# Altium schematic symbol library conn_b2b.SchLib: 41 symbols (part 2 of 2)
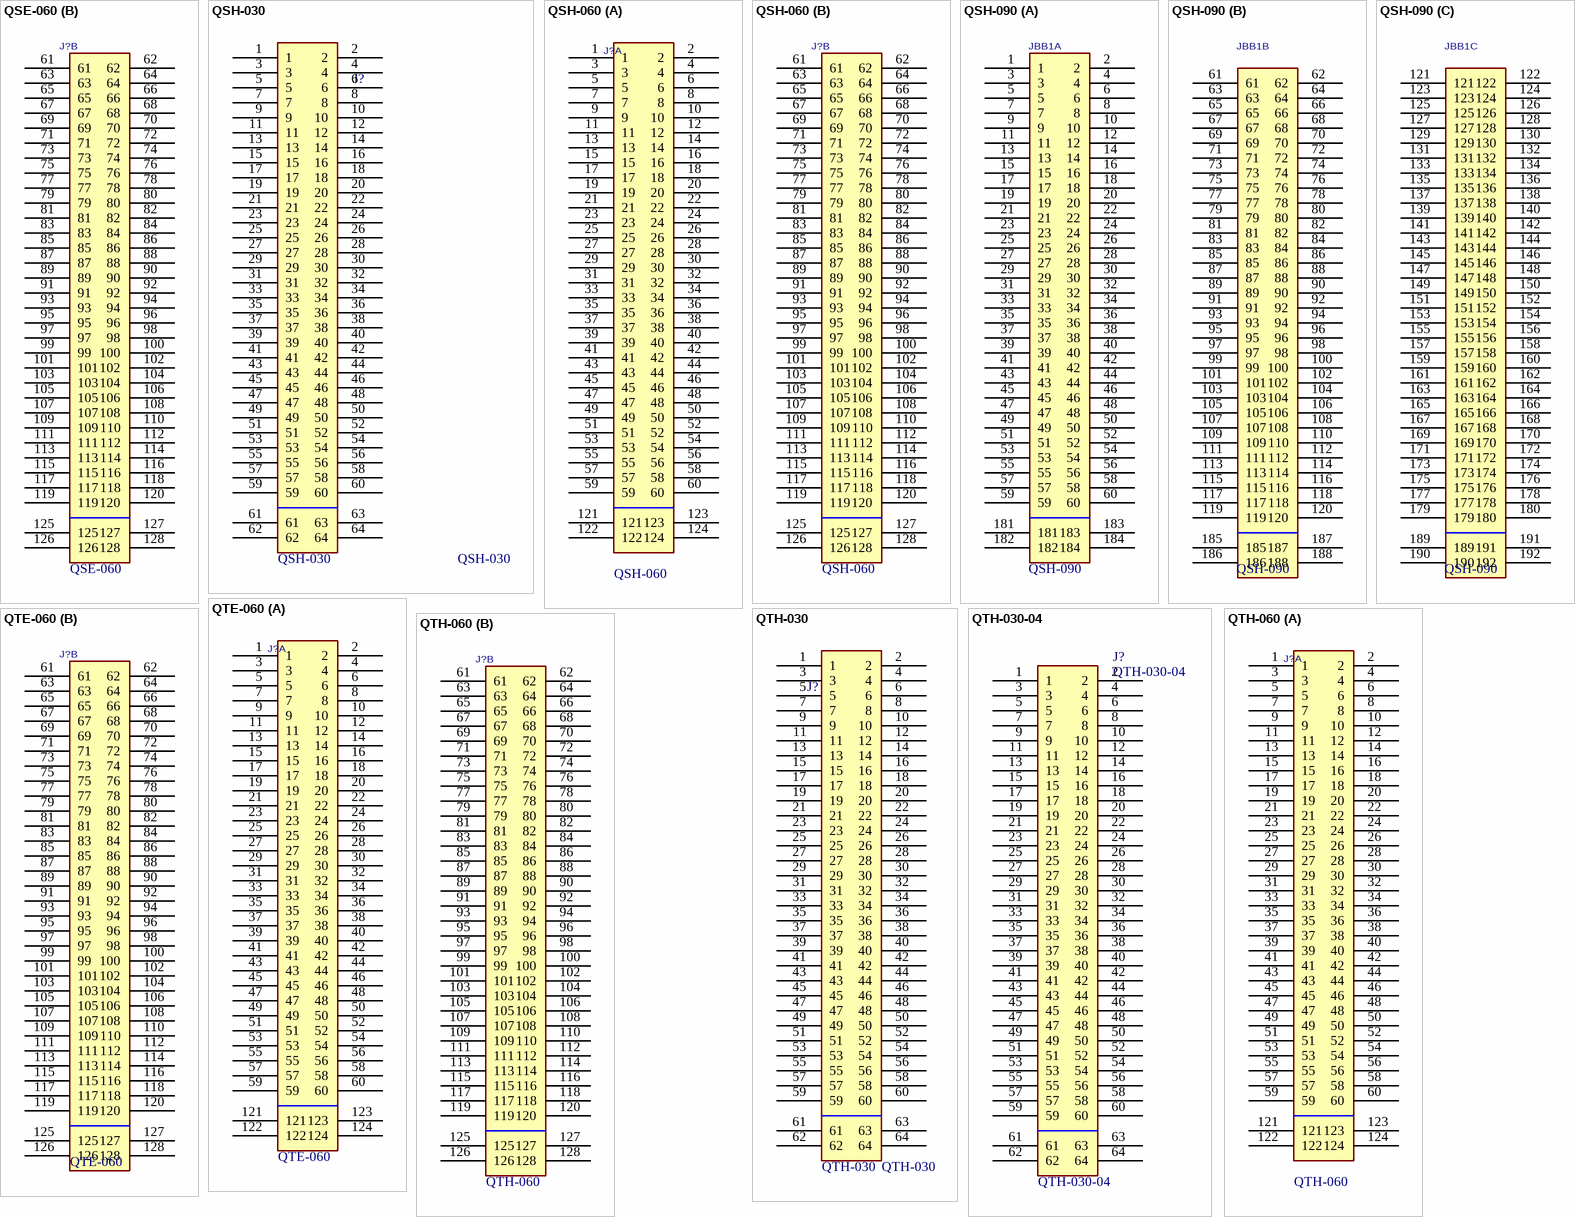
[diagram p13: symbols QSE-060 to QTH-060]

## QSH-060
designator J?
CONN, HI-SPD, Q-strip, 0.5mm pitch, Socket, 120P; MANF: SAMTEC; MANF_P#: QSH-060-01-X-D-A; VALUE: QSH-060
footprint QSH_060_01 (samtec 0.50mm Q Strip® High Speed Ground Plane Socket Strip, QSH-060-01-L-D-A)
part A pins: 1, 2, 3, 4, 5, 6, 7, 8, 9, 10, 11, 12, 13, 14, 15, 16, 17, 18, 19, 20, 21, 22, 23, 24, 25, 26, 27, 28, 29, 30, 31, 32, 33, 34, 35, 36, 37, 38, 39, 40, 41, 42, 43, 44, 45, 46, 47, 48, 49, 50, 51, 52, 53, 54, 55, 56, 57, 58, 59, 60, 121, 122, 123, 124
part B pins: 61, 62, 63, 64, 65, 66, 67, 68, 69, 70, 71, 72, 73, 74, 75, 76, 77, 78, 79, 80, 81, 82, 83, 84, 85, 86, 87, 88, 89, 90, 91, 92, 93, 94, 95, 96, 97, 98, 99, 100, 101, 102, 103, 104, 105, 106, 107, 108, 109, 110, 111, 112, 113, 114, 115, 116, 117, 118, 119, 120, 125, 126, 127, 128

## QSH-090
designator JBB1
CONN, HI-SPD, Q-strip, 0.5mm pitch, Socket, 180P; MANF: SAMTEC; MANF_P#: QSH-090-01-X-D-A; VALUE: QSH-090
footprint QSH_090_01 (Speed Ground Plane Socket Strip, QSH-060-01-L-D-A)
part A pins: 1, 2, 3, 4, 5, 6, 7, 8, 9, 10, 11, 12, 13, 14, 15, 16, 17, 18, 19, 20, 21, 22, 23, 24, 25, 26, 27, 28, 29, 30, 31, 32, 33, 34, 35, 36, 37, 38, 39, 40, 41, 42, 43, 44, 45, 46, 47, 48, 49, 50, 51, 52, 53, 54, 55, 56, 57, 58, 59, 60, 181, 182, 183, 184
part B pins: 61, 62, 63, 64, 65, 66, 67, 68, 69, 70, 71, 72, 73, 74, 75, 76, 77, 78, 79, 80, 81, 82, 83, 84, 85, 86, 87, 88, 89, 90, 91, 92, 93, 94, 95, 96, 97, 98, 99, 100, 101, 102, 103, 104, 105, 106, 107, 108, 109, 110, 111, 112, 113, 114, 115, 116, 117, 118, 119, 120, 185, 186, 187, 188
part C pins: 121, 122, 123, 124, 125, 126, 127, 128, 129, 130, 131, 132, 133, 134, 135, 136, 137, 138, 139, 140, 141, 142, 143, 144, 145, 146, 147, 148, 149, 150, 151, 152, 153, 154, 155, 156, 157, 158, 159, 160, 161, 162, 163, 164, 165, 166, 167, 168, 169, 170, 171, 172, 173, 174, 175, 176, 177, 178, 179, 180, 189, 190, 191, 192

## QTE-060
designator J?
CONN, HI-SPD, Q-strip, 0.8mm pitch, Terminal, 120P; MANF: SAMTEC; MANF_P#: QTE-060-03-X-D-A; VALUE: QTE-060
footprint QTE_060_03 (samtec 0.80 mm Q Strip® High Speed Ground Plane Terminal Strip)
part A pins: 1, 2, 3, 4, 5, 6, 7, 8, 9, 10, 11, 12, 13, 14, 15, 16, 17, 18, 19, 20, 21, 22, 23, 24, 25, 26, 27, 28, 29, 30, 31, 32, 33, 34, 35, 36, 37, 38, 39, 40, 41, 42, 43, 44, 45, 46, 47, 48, 49, 50, 51, 52, 53, 54, 55, 56, 57, 58, 59, 60, 121, 122, 123, 124
part B pins: 61, 62, 63, 64, 65, 66, 67, 68, 69, 70, 71, 72, 73, 74, 75, 76, 77, 78, 79, 80, 81, 82, 83, 84, 85, 86, 87, 88, 89, 90, 91, 92, 93, 94, 95, 96, 97, 98, 99, 100, 101, 102, 103, 104, 105, 106, 107, 108, 109, 110, 111, 112, 113, 114, 115, 116, 117, 118, 119, 120, 125, 126, 127, 128

## QTH-030
designator J?
CONN, HI-SPD, Q-strip, 0.5mm pitch, Terminal, 60P; MANF: SAMTEC; MANF_P#: QTH-030-01-L-D-A; DESC: 5mm, Mating QSH-030-01-L-D-A; PRICE: 1=9.14, 10=8.455, 25=7.9976, 50=7.5862, 100=7.0835, 250=6.16952, 500=5.941, 1000=5.7125(USD); Value: QTH-030
footprint QTH_030_01 (samtec 0.50 mm Q Strip® High Speed Ground Plane Terminal Strip)
pins: 1, 2, 3, 4, 5, 6, 7, 8, 9, 10, 11, 12, 13, 14, 15, 16, 17, 18, 19, 20, 21, 22, 23, 24, 25, 26, 27, 28, 29, 30, 31, 32, 33, 34, 35, 36, 37, 38, 39, 40, 41, 42, 43, 44, 45, 46, 47, 48, 49, 50, 51, 52, 53, 54, 55, 56, 57, 58, 59, 60, 61, 62, 63, 64, 65 HOLE1 hidden, 66 HOLE2 hidden

## QTH-030-04
designator J?
CONN, HI-SPD, Q-strip, 0.5mm pitch, Terminal, 60P; MANF: SAMTEC; MANF_P#: QTH-030-04-L-D-A; DESC: 19mm; ASSEMBLY: ASSEMBLY; Value: QTH-030-04
footprint QTH_030_04 (samtec 0.50 mm Q Strip® High Speed Ground Plane Terminal Strip)
pins: 1, 2, 3, 4, 5, 6, 7, 8, 9, 10, 11, 12, 13, 14, 15, 16, 17, 18, 19, 20, 21, 22, 23, 24, 25, 26, 27, 28, 29, 30, 31, 32, 33, 34, 35, 36, 37, 38, 39, 40, 41, 42, 43, 44, 45, 46, 47, 48, 49, 50, 51, 52, 53, 54, 55, 56, 57, 58, 59, 60, 61, 62, 63, 64, 65 HOLE1 hidden, 66 HOLE2 hidden

## QTH-060
designator J?
CONN, HI-SPD, Q-strip, 0.5mm pitch, Terminal, 120P; MANF: SAMTEC; MANF_P#: QTH-060-01-X-D-A; VALUE: QTH-060
footprint QTH_060_01 (samtec 0.50 mm Q Strip® High Speed Ground Plane Terminal Strip)
part A pins: 1, 2, 3, 4, 5, 6, 7, 8, 9, 10, 11, 12, 13, 14, 15, 16, 17, 18, 19, 20, 21, 22, 23, 24, 25, 26, 27, 28, 29, 30, 31, 32, 33, 34, 35, 36, 37, 38, 39, 40, 41, 42, 43, 44, 45, 46, 47, 48, 49, 50, 51, 52, 53, 54, 55, 56, 57, 58, 59, 60, 121, 122, 123, 124
part B pins: 61, 62, 63, 64, 65, 66, 67, 68, 69, 70, 71, 72, 73, 74, 75, 76, 77, 78, 79, 80, 81, 82, 83, 84, 85, 86, 87, 88, 89, 90, 91, 92, 93, 94, 95, 96, 97, 98, 99, 100, 101, 102, 103, 104, 105, 106, 107, 108, 109, 110, 111, 112, 113, 114, 115, 116, 117, 118, 119, 120, 125, 126, 127, 128

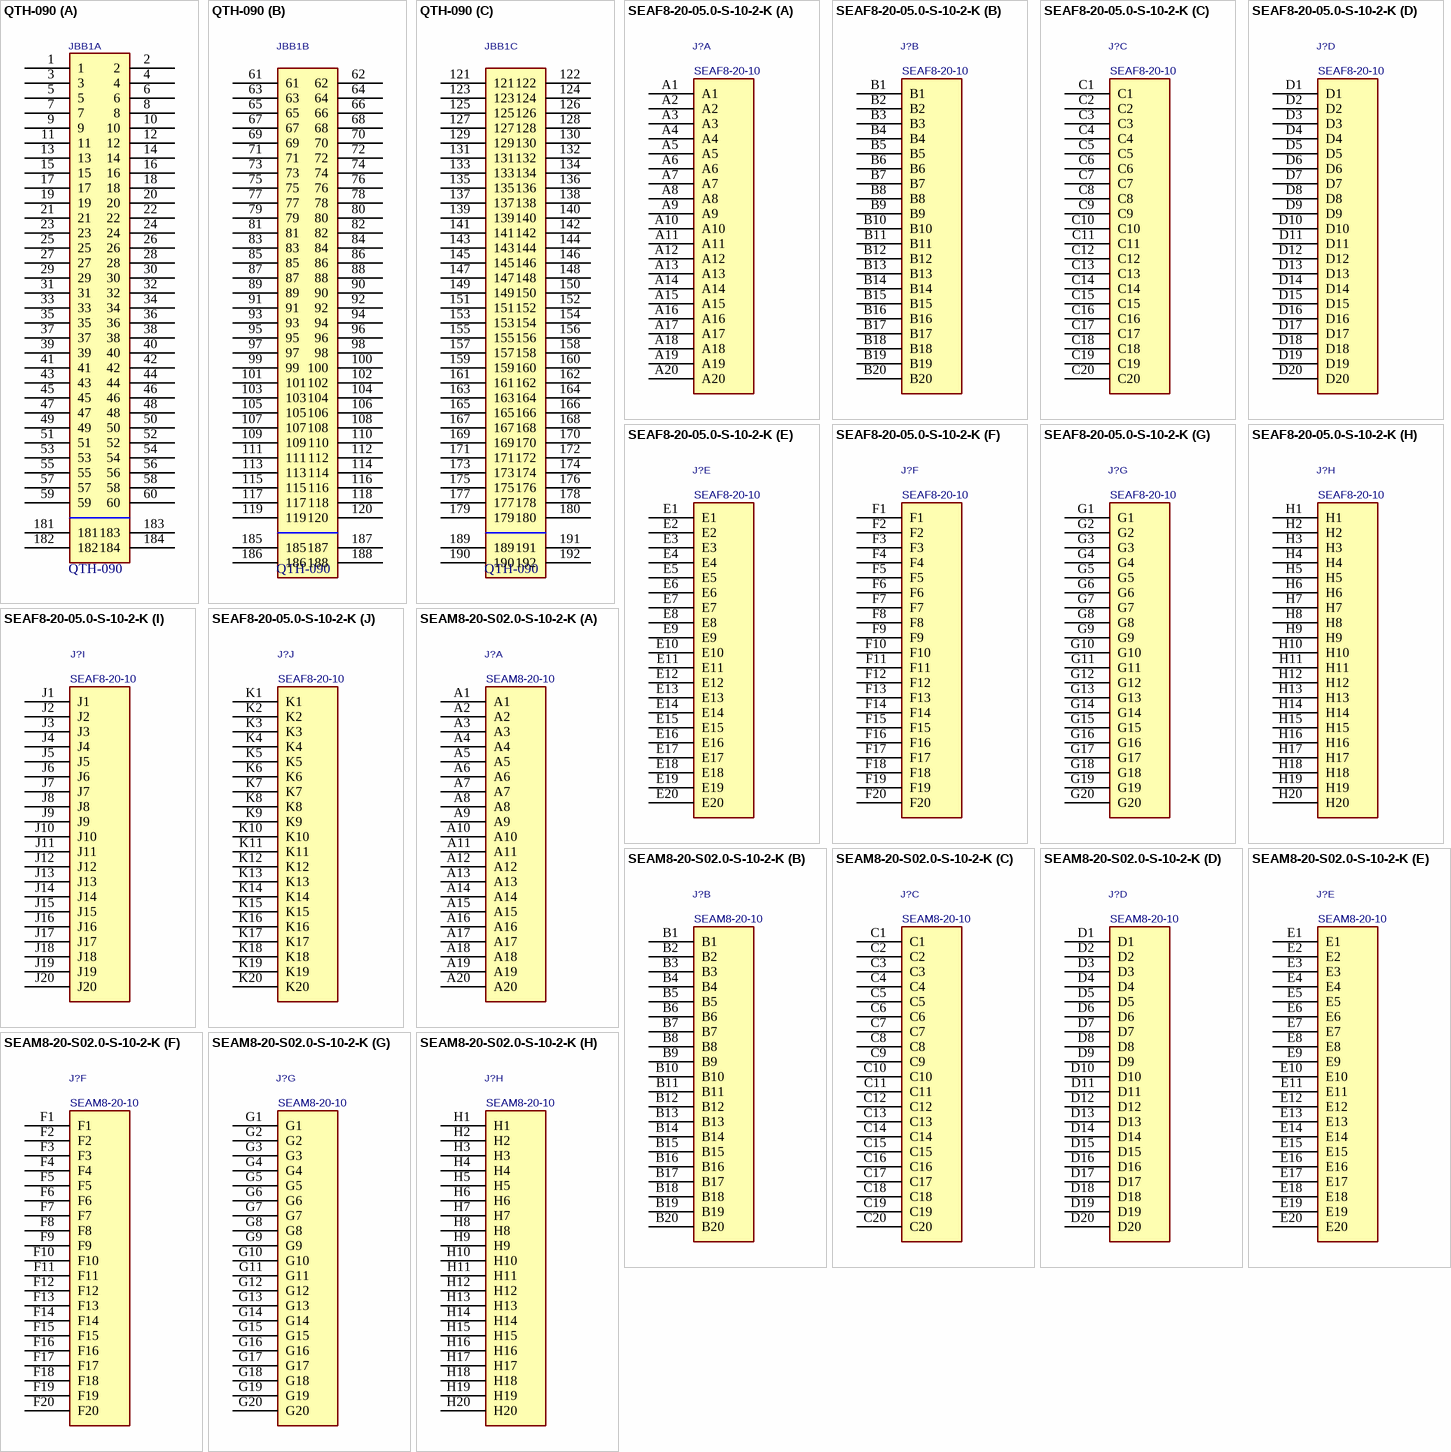
[diagram p11: symbols QTH-090 to SEAM8-20-S02.0-S-10-2-K]

## QTH-090
designator JBB1
CONN, HI-SPD, Q-strip, 0.5mm pitch, Terminal, 180P; MANF: SAMTEC; MANF_P#: QTH-090-01-F-D-A; VALUE: QTH-090
footprint QTH_090_01 (samtec 0.50 mm Q Strip® High Speed Ground Plane Terminal Strip)
part A pins: 1, 2, 3, 4, 5, 6, 7, 8, 9, 10, 11, 12, 13, 14, 15, 16, 17, 18, 19, 20, 21, 22, 23, 24, 25, 26, 27, 28, 29, 30, 31, 32, 33, 34, 35, 36, 37, 38, 39, 40, 41, 42, 43, 44, 45, 46, 47, 48, 49, 50, 51, 52, 53, 54, 55, 56, 57, 58, 59, 60, 181, 182, 183, 184
part B pins: 61, 62, 63, 64, 65, 66, 67, 68, 69, 70, 71, 72, 73, 74, 75, 76, 77, 78, 79, 80, 81, 82, 83, 84, 85, 86, 87, 88, 89, 90, 91, 92, 93, 94, 95, 96, 97, 98, 99, 100, 101, 102, 103, 104, 105, 106, 107, 108, 109, 110, 111, 112, 113, 114, 115, 116, 117, 118, 119, 120, 185, 186, 187, 188
part C pins: 121, 122, 123, 124, 125, 126, 127, 128, 129, 130, 131, 132, 133, 134, 135, 136, 137, 138, 139, 140, 141, 142, 143, 144, 145, 146, 147, 148, 149, 150, 151, 152, 153, 154, 155, 156, 157, 158, 159, 160, 161, 162, 163, 164, 165, 166, 167, 168, 169, 170, 171, 172, 173, 174, 175, 176, 177, 178, 179, 180, 189, 190, 191, 192

## SEAF8-20-05.0-S-10-2-K
designator J?, comment SEAF8-20-10
Samtec 0.80 mm SEARAY™ High-Speed High-Density; MANF_P#: SEAF8-20-05.0-S-10-2-K; PARAM2: 20columns X 10rows; PARAM: Up-to12Gbps, pitch0.8mm Array; MANF: SAMTEC; VALUE: SEAF8-20-10
footprint SEAF8_20_S_10 (CONN, B2B, SAMTEC, SEAF8-20-05.0-S-10-2-K)
part A pins: A1, A2, A3, A4, A5, A6, A7, A8, A9, A10, A11, A12, A13, A14, A15, A16, A17, A18, A19, A20
part B pins: B1, B2, B3, B4, B5, B6, B7, B8, B9, B10, B11, B12, B13, B14, B15, B16, B17, B18, B19, B20
part C pins: C1, C2, C3, C4, C5, C6, C7, C8, C9, C10, C11, C12, C13, C14, C15, C16, C17, C18, C19, C20
part D pins: D1, D2, D3, D4, D5, D6, D7, D8, D9, D10, D11, D12, D13, D14, D15, D16, D17, D18, D19, D20
part E pins: E1, E2, E3, E4, E5, E6, E7, E8, E9, E10, E11, E12, E13, E14, E15, E16, E17, E18, E19, E20
part F pins: F1, F2, F3, F4, F5, F6, F7, F8, F9, F10, F11, F12, F13, F14, F15, F16, F17, F18, F19, F20
part G pins: G1, G2, G3, G4, G5, G6, G7, G8, G9, G10, G11, G12, G13, G14, G15, G16, G17, G18, G19, G20
part H pins: H1, H2, H3, H4, H5, H6, H7, H8, H9, H10, H11, H12, H13, H14, H15, H16, H17, H18, H19, H20
part I pins: J1, J2, J3, J4, J5, J6, J7, J8, J9, J10, J11, J12, J13, J14, J15, J16, J17, J18, J19, J20
part J pins: K1, K2, K3, K4, K5, K6, K7, K8, K9, K10, K11, K12, K13, K14, K15, K16, K17, K18, K19, K20

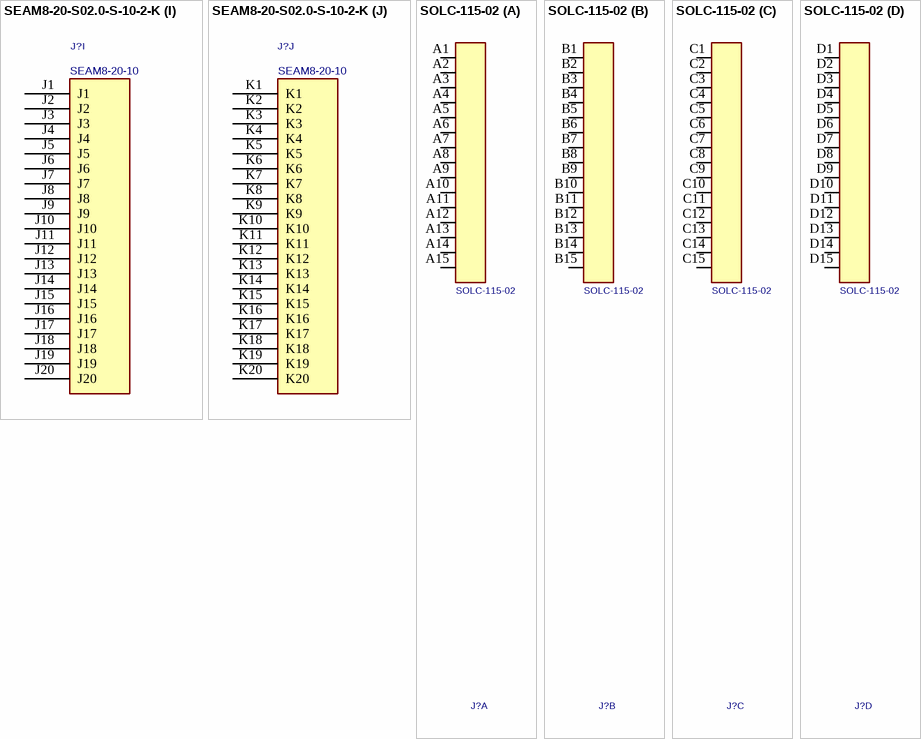
[diagram p12: symbols SEAM8-20-S02.0-S-10-2-K to SOLC-115-02]

## SEAM8-20-S02.0-S-10-2-K
designator J?, comment SEAM8-20-10
Samtec 0.80 mm SEARAY™ High-Speed High-Density; MANF_P#: SEAM8-20-S02.0-S-10-2-K; PARAM2: 20columns X 10rows; PARAM: Up-to12Gbps, pitch0.8mm Array; MANF: SAMTEC; VALUE: SEAM8-20-10
footprint SEAM8_20_S_10 (CONN, B2B, SAMTEC, SEAM8-20-S02.0-S-10-2-K)
part A pins: A1, A2, A3, A4, A5, A6, A7, A8, A9, A10, A11, A12, A13, A14, A15, A16, A17, A18, A19, A20
part B pins: B1, B2, B3, B4, B5, B6, B7, B8, B9, B10, B11, B12, B13, B14, B15, B16, B17, B18, B19, B20
part C pins: C1, C2, C3, C4, C5, C6, C7, C8, C9, C10, C11, C12, C13, C14, C15, C16, C17, C18, C19, C20
part D pins: D1, D2, D3, D4, D5, D6, D7, D8, D9, D10, D11, D12, D13, D14, D15, D16, D17, D18, D19, D20
part E pins: E1, E2, E3, E4, E5, E6, E7, E8, E9, E10, E11, E12, E13, E14, E15, E16, E17, E18, E19, E20
part F pins: F1, F2, F3, F4, F5, F6, F7, F8, F9, F10, F11, F12, F13, F14, F15, F16, F17, F18, F19, F20
part G pins: G1, G2, G3, G4, G5, G6, G7, G8, G9, G10, G11, G12, G13, G14, G15, G16, G17, G18, G19, G20
part H pins: H1, H2, H3, H4, H5, H6, H7, H8, H9, H10, H11, H12, H13, H14, H15, H16, H17, H18, H19, H20
part I pins: J1, J2, J3, J4, J5, J6, J7, J8, J9, J10, J11, J12, J13, J14, J15, J16, J17, J18, J19, J20
part J pins: K1, K2, K3, K4, K5, K6, K7, K8, K9, K10, K11, K12, K13, K14, K15, K16, K17, K18, K19, K20

## SOLC-115-02
designator J?
Conn, 60P 1.27mm 180D(F) SMD; MANF_P#: SOLC-115-02-S-Q-LC; MANF: SAMTEC; VALUE: SOLC-115-02
footprint SOLC_15Q (SAMTEC SOLC-115-02-S-Q-LC)
part A pins: A1, A2, A3, A4, A5, A6, A7, A8, A9, A10, A11, A12, A13, A14, A15
part B pins: B1, B2, B3, B4, B5, B6, B7, B8, B9, B10, B11, B12, B13, B14, B15
part C pins: C1, C2, C3, C4, C5, C6, C7, C8, C9, C10, C11, C12, C13, C14, C15
part D pins: D1, D2, D3, D4, D5, D6, D7, D8, D9, D10, D11, D12, D13, D14, D15